# EAGLE library part LTC2624 (library IC)
Linear Technology LTC2624/2604/2614 Quad rail-to-rail DAC
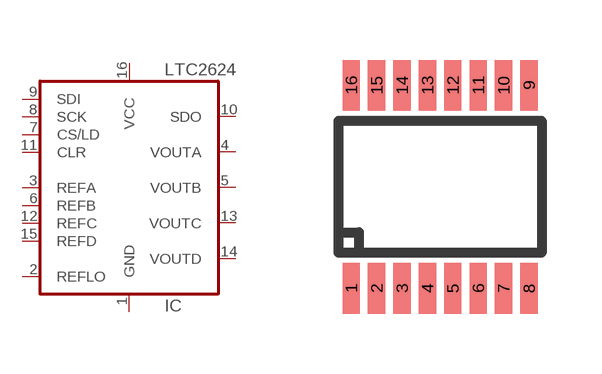
[diagram p96: symbol with the pads of SSOP16-LTCGN; footprint SSOP16-LTCGN]

Designator prefix IC

## LTC2624  [SSOP16-LTCGN]
1  GND  pwr
2  REFLO
3  REFA
4  VOUTA
5  VOUTB
6  REFB
7  CS/LD
8  SCK
9  SDI
10  SDO  out
11  CLR
12  REFC
13  VOUTC
14  VOUTD
15  REFD
16  VCC  pwr

## Footprint SSOP16-LTCGN (pad centres in mm)
Linear Technology GN - SSOP16
smd 0.432 x 1.27: 1 -2.223,-2.54; 2 -1.587,-2.54; 3 -0.953,-2.54; 4 -0.318,-2.54; 5 0.318,-2.54; 6 0.953,-2.54; 7 1.587,-2.54; 8 2.223,-2.54; 9 2.223,2.54; 10 1.587,2.54; 11 0.953,2.54; 12 0.318,2.54; 13 -0.318,2.54; 14 -0.953,2.54; 15 -1.587,2.54; 16 -2.223,2.54